# EAGLE library part IC51-0644-807 (library KVB-connectors)
Component Socket 64Pin QFP 0.50 pitch
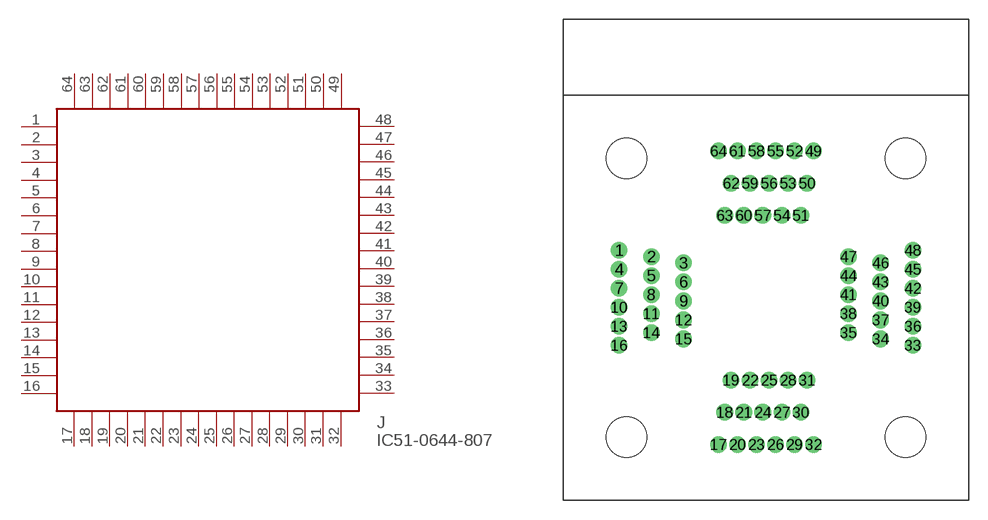
[diagram p26: symbol with the pads of IC51-0644-807; footprint IC51-0644-807]

Designator prefix J

## IC51-0644-807 (MAN-PART_NUM: IC51-0644-807; MANUFACTURER: Yamaichi Electronics)  [IC51-0644-807]
1  P$1
2  P$2
3  P$3
4  P$4
5  P$5
6  P$6
7  P$7
8  P$8
9  P$9
10  P$10
11  P$11
12  P$12
13  P$13
14  P$14
15  P$15
16  P$16
17  P$17
18  P$18
19  P$19
20  P$20
21  P$21
22  P$22
23  P$23
24  P$24
25  P$25
26  P$26
27  P$27
28  P$28
29  P$29
30  P$30
31  P$31
32  P$32
33  P$33
34  P$34
35  P$35
36  P$36
37  P$37
38  P$38
39  P$39
40  P$40
41  P$41
42  P$42
43  P$43
44  P$44
45  P$45
46  P$46
47  P$47
48  P$48
49  P$49
50  P$50
51  P$51
52  P$52
53  P$53
54  P$54
55  P$55
56  P$56
57  P$57
58  P$58
59  P$59
60  P$60
61  P$61
62  P$62
63  P$63
64  P$64

## Footprint IC51-0644-807 (pad centres in mm)
drill 0.8 pad 1.2: 1 -11.58,3.75; 2 -9.04,3.25; 3 -6.5,2.75; 4 -11.58,2.25; 5 -9.04,1.75; 6 -6.5,1.25; 7 -11.58,0.75; 8 -9.04,0.25; 9 -6.5,-0.25; 10 -11.58,-0.75; 11 -9.04,-1.25; 12 -6.5,-1.75; 13 -11.58,-2.25; 14 -9.04,-2.75; 15 -6.5,-3.25; 16 -11.58,-3.75; 17 -3.75,-11.58; 18 -3.25,-9.04; 19 -2.75,-6.5; 20 -2.25,-11.58; 21 -1.75,-9.04; 22 -1.25,-6.5; 23 -0.75,-11.58; 24 -0.25,-9.04; 25 0.25,-6.5; 26 0.75,-11.58; 27 1.25,-9.04; 28 1.75,-6.5; 29 2.25,-11.58; 30 2.75,-9.04; 31 3.25,-6.5; 32 3.75,-11.58; 33 11.58,-3.75; 34 9.04,-3.25; 35 6.5,-2.75; 36 11.58,-2.25; 37 9.04,-1.75; 38 6.5,-1.25; 39 11.58,-0.75; 40 9.04,-0.25; 41 6.5,0.25; 42 11.58,0.75; 43 9.04,1.25; 44 6.5,1.75; 45 11.58,2.25; 46 9.04,2.75; 47 6.5,3.25; 48 11.58,3.75; 49 3.75,11.58; 50 3.25,9.04; 51 2.75,6.5; 52 2.25,11.58; 53 1.75,9.04; 54 1.25,6.5; 55 0.75,11.58; 56 0.25,9.04; 57 -0.25,6.5; 58 -0.75,11.58; 59 -1.25,9.04; 60 -1.75,6.5; 61 -2.25,11.58; 62 -2.75,9.04; 63 -3.25,6.5; 64 -3.75,11.58
hole 3.2 at -11,11
hole 3.2 at 11,11
hole 3.2 at 11,-11
hole 3.2 at -11,-11